# Altium schematic symbol library TPD3F303.SchLib: 1 symbol
Pins are listed as number, name and electrical type; pins without a type are passive.

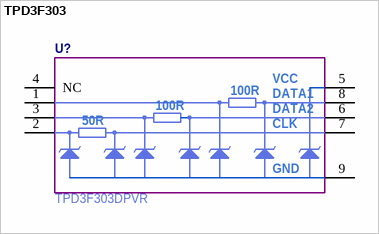
[diagram p0: symbol TPD3F303]

## TPD3F303
designator U?  Manufacturer Part Number: TPD3F303DPVR  (hidden comment: *)
pins: 1 DATA1_OUT, 2 CLK_OUT, 3 DATA2_OUT, 4 NC, 5 VCC, 6 DATA2_IN, 7 CLK_IN, 8 DATA1_IN, 9 GND
text: 100R; DATA1; DATA2; 50R; CLK